# EAGLE library part SN75175D (library TREC_Library)
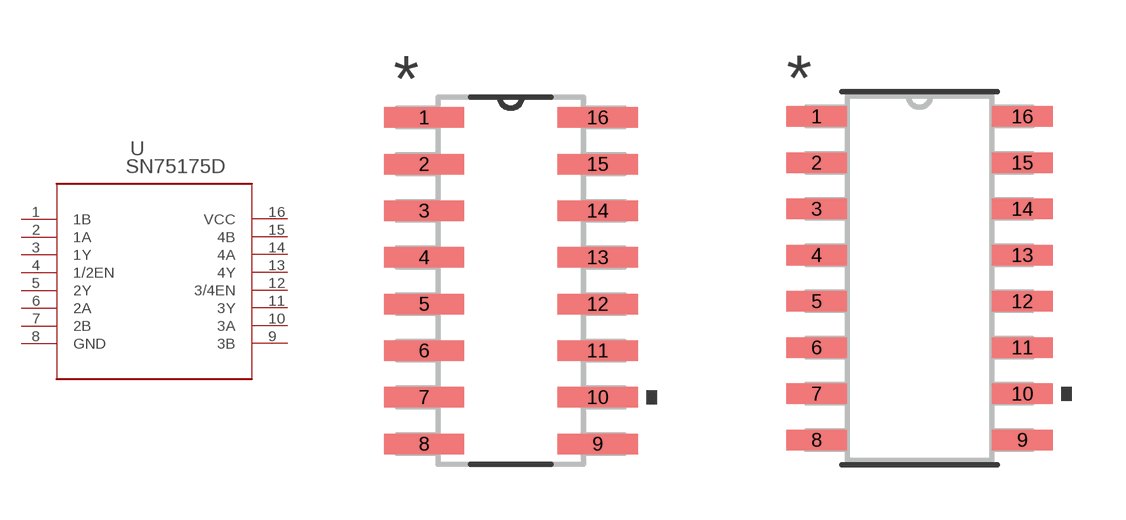
[diagram p3: symbol with the pads of D16; footprints D16, D16-M]

Designator prefix U

## SN75175D (COPYRIGHT: Copyright (C) 2022 Ultra Librarian. All rights reserved.; MANUFACTURER_PART_NUMBER: SN75175D; MFR_NAME: Texas Instruments)  [D16]
1  1B  in
2  1A  in
3  1Y  out
4  1/2EN  pas
5  2Y  out
6  2A  in
7  2B  in
8  GND  pwr
9  3B  in
10  3A  in
11  3Y  out
12  3/4EN  pas
13  4Y  out
14  4A  in
15  4B  in
16  VCC  pwr

## SN75175DD16-M (COPYRIGHT: Copyright (C) 2022 Ultra Librarian. All rights reserved.; MANUFACTURER_PART_NUMBER: SN75175D; MFR_NAME: Texas Instruments)  [D16-M]
Pads as for D16

## SN75175DD16-L (COPYRIGHT: Copyright (C) 2022 Ultra Librarian. All rights reserved.; MANUFACTURER_PART_NUMBER: SN75175D; MFR_NAME: Texas Instruments)  [D16-L]
Pads as for D16

## Footprint D16 (pad centres in mm)
smd 2.184 x 0.559: 1 -2.362,4.445; 2 -2.362,3.175; 3 -2.362,1.905; 4 -2.362,0.635; 5 -2.362,-0.635; 6 -2.362,-1.905; 7 -2.362,-3.175; 8 -2.362,-4.445; 9 2.362,-4.445; 10 2.362,-3.175; 11 2.362,-1.905; 12 2.362,-0.635; 13 2.362,0.635; 14 2.362,1.905; 15 2.362,3.175; 16 2.362,4.445

## Footprint D16-M (pad centres in mm)
smd 1.664 x 0.559: 1 -2.826,4.445; 2 -2.826,3.175; 3 -2.826,1.905; 4 -2.826,0.635; 5 -2.826,-0.635; 6 -2.826,-1.905; 7 -2.826,-3.175; 8 -2.826,-4.445; 9 2.826,-4.445; 10 2.826,-3.175; 11 2.826,-1.905; 12 2.826,-0.635; 13 2.826,0.635; 14 2.826,1.905; 15 2.826,3.175; 16 2.826,4.445

## Footprint D16-L (pad centres in mm)
smd 1.257 x 0.508: 1 -2.623,4.445; 2 -2.623,3.175; 3 -2.623,1.905; 4 -2.623,0.635; 5 -2.623,-0.635; 6 -2.623,-1.905; 7 -2.623,-3.175; 8 -2.623,-4.445; 9 2.623,-4.445; 10 2.623,-3.175; 11 2.623,-1.905; 12 2.623,-0.635; 13 2.623,0.635; 14 2.623,1.905; 15 2.623,3.175; 16 2.623,4.445